# EAGLE library part TXB0104 (library teensylu)
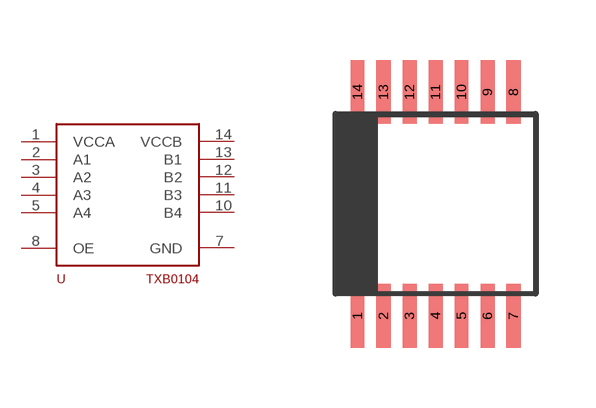
[diagram p8: symbol with the pads of TSSOP14; footprint TSSOP14]

Designator prefix U

## TXB0104TSSOP14 (MANUFACTURER: Texas Instruments; MANUFACTURER_PART_NUMBER: TXB0104PWR)  [TSSOP14]
1  VCCA  pwr
2  A1
3  A2
4  A3
5  A4
7  GND  sup
8  OE  in
10  B4
11  B3
12  B2
13  B1
14  VCCB  pwr

## Footprint TSSOP14 (pad centres in mm)
smd 0.35 x 1.6: 1 -2,-2.9; 2 -1.35,-2.9; 3 -0.7,-2.9; 4 -0.05,-2.9; 5 0.6,-2.9; 6 1.25,-2.9; 7 1.9,-2.9; 8 1.9,2.7; 9 1.25,2.7; 10 0.6,2.7; 11 -0.05,2.7; 12 -0.7,2.7; 13 -1.35,2.7; 14 -2,2.7